# EAGLE library part GP-02 (library kxn_Standard_wireless_module)
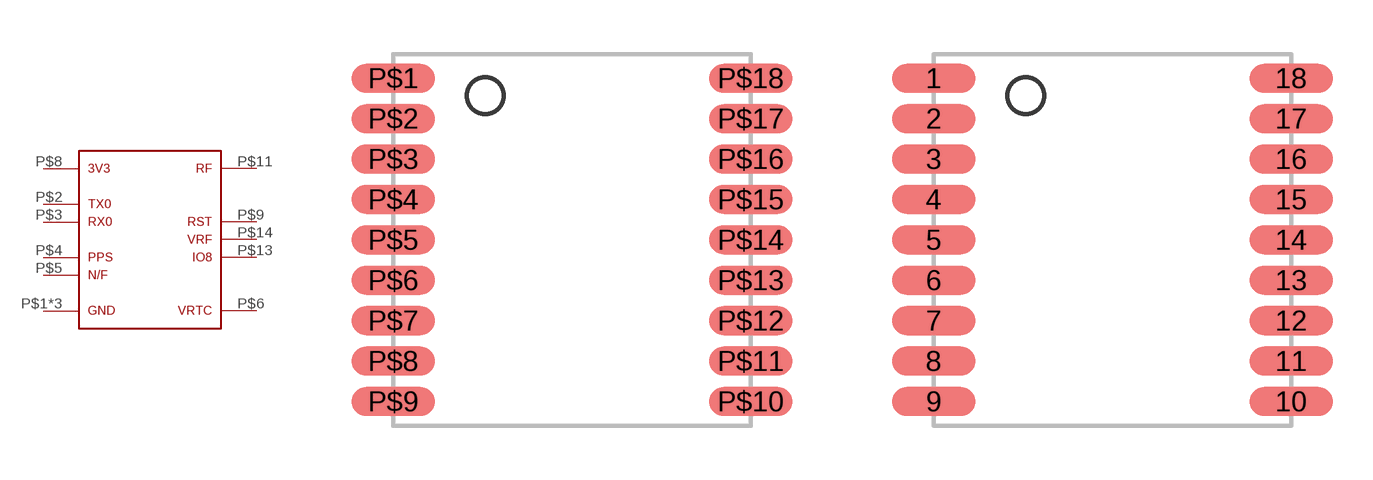
[diagram p5: symbol with the pads of GP-02_FULL_PAD; footprints GP-02_FULL_PAD, GP-02_FULL_PAD_2]

Designator prefix -

## GP-02  [GP-02_FULL_PAD]
P$1  P$1
P$2  P$2
P$3  P$3
P$4  P$4
P$5  P$5
P$6  P$6
P$8  P$8
P$9  P$9
P$10  P$1
P$11  P$11
P$12  P$1
P$13  P$13
P$14  P$14

## GP-02_2  [GP-02_FULL_PAD_2]
1  P$1
2  P$2
3  P$3
4  P$4
5  P$5
6  P$6
8  P$8
9  P$9
10  P$1
11  P$11
12  P$1
13  P$13
14  P$14

## Footprint GP-02_FULL_PAD (pad centres in mm)
smd 2.3 x 0.8: P$1 -4.95,4.48; P$2 -4.95,3.36; P$3 -4.95,2.24; P$4 -4.95,1.12; P$5 -4.95,0; P$6 -4.95,-1.12; P$7 -4.95,-2.24; P$8 -4.95,-3.36; P$9 -4.95,-4.48; P$10 4.95,-4.48; P$11 4.95,-3.36; P$12 4.95,-2.24; P$13 4.95,-1.12; P$14 4.95,0; P$15 4.95,1.12; P$16 4.95,2.24; P$17 4.95,3.36; P$18 4.95,4.48

## Footprint GP-02_FULL_PAD_2 (pad centres in mm)
smd 2.3 x 0.8: 1 -4.95,4.48; 2 -4.95,3.36; 3 -4.95,2.24; 4 -4.95,1.12; 5 -4.95,0; 6 -4.95,-1.12; 7 -4.95,-2.24; 8 -4.95,-3.36; 9 -4.95,-4.48; 10 4.95,-4.48; 11 4.95,-3.36; 12 4.95,-2.24; 13 4.95,-1.12; 14 4.95,0; 15 4.95,1.12; 16 4.95,2.24; 17 4.95,3.36; 18 4.95,4.48